# Altium footprint library Hengeveld.PCBLIB: 22 footprints (part 1 of 2)
Each footprint in its own frame and in the unit in brackets; x right, y up, seen from the top. Pads: shape width x height; smd on the part's side, far side on the other; paste and mask are expansions set on the pad; w line width, h text height; cw(c..) or ccw(c..) is an arc to the next point about the centre after c.
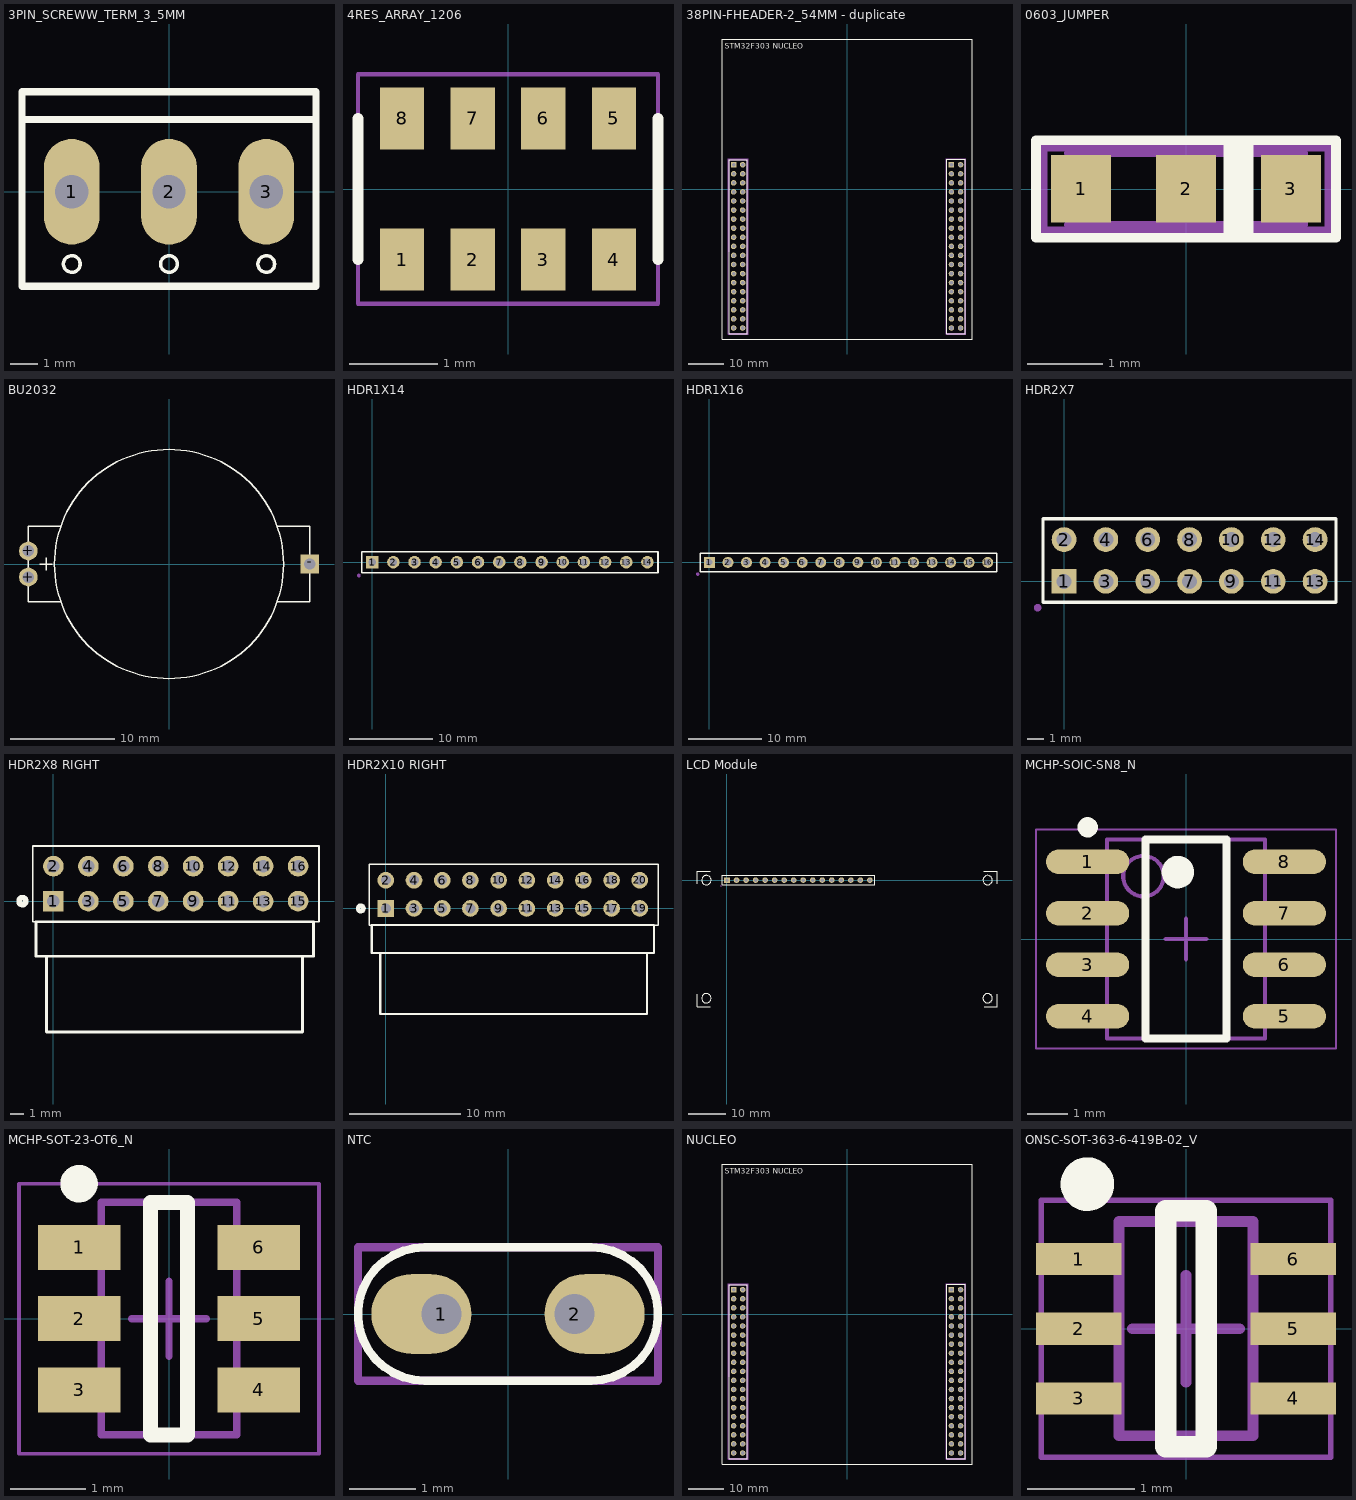
[diagram p0: the footprints below, top view; thin cyan lines are the x and y axes]

## 3PIN_SCREWW_TERM_3_5MM [mm]
height 5
pads (3):
  oval 2x3.8 hole 1.2: 1(-3.5,0) 2(0,0) 3(3.5,0)
Top Overlay:
  circle w0.127: c-3.5,-2.6 r0.3
  circle w0.127: c0,-2.6 r0.3
  circle w0.127: c3.5,-2.6 r0.3
  lines w0.254: -5.3,2.6 5.3,2.6 ; -5.3,-3.4 5.3,-3.4 5.3,3.6 0,3.6 -5.3,3.6 -5.3,-3.4

## 4RES_ARRAY_1206 [mm]
pads (8):
  rect 0.5x0.7 smd: 1(-1.2,-0.8) 2(-0.4,-0.8) 3(0.4,-0.8) 4(1.2,-0.8) 5(1.2,0.8) 6(0.4,0.8) 7(-0.4,0.8) 8(-1.2,0.8)
Top Overlay:
  lines w0.127: -1.7,-0.8 -1.7,0.8 ; 1.7,-0.8 1.7,0.8
Mechanical 15:
  lines w0.05: -1.7,-1.3 -1.7,1.3 1.7,1.3 1.7,-1.3 -1.7,-1.3
3D body "4RES_ARRAY.step": height 0.64, standoff -0.01, extent -1.6,-0.82 1.6,0.82

## 38PIN-FHEADER-2_54MM - duplicate [mm] "Low Cost Board Spacer, 2x19 Pins, Vertical, 2.54mm Pitch, Male"
height 28.245
pads (76):
  rect 1.55x1.55 hole 1.02: 1_1(-31.75,6.8) 1_2(29.25,6.8)
  round 1.55 hole 1.02: 2_1(-29.21,6.8) 2_2(31.79,6.8) 3_1(-31.75,4.26) 3_2(29.25,4.26) 4_1(-29.21,4.26) 4_2(31.79,4.26) 5_1(-31.75,1.72) 5_2(29.25,1.72) 6_1(-29.21,1.72) 6_2(31.79,1.72) 7_1(-31.75,-0.82) 7_2(29.25,-0.82) 8_1(-29.21,-0.82) 8_2(31.79,-0.82) 9_1(-31.75,-3.36) 9_2(29.25,-3.36) 10_1(-29.21,-3.36) 10_2(31.79,-3.36) 11_1(-31.75,-5.9) 11_2(29.25,-5.9) 12_1(-29.21,-5.9) 12_2(31.79,-5.9) 13_1(-31.75,-8.44) 13_2(29.25,-8.44) 14_1(-29.21,-8.44) 14_2(31.79,-8.44) 15_1(-31.75,-10.98) 15_2(29.25,-10.98) 16_1(-29.21,-10.98) 16_2(31.79,-10.98) 17_1(-31.75,-13.52) 17_2(29.25,-13.52) 18_1(-29.21,-13.52) 18_2(31.79,-13.52) 19_1(-31.75,-16.06) 19_2(29.25,-16.06) 20_1(-29.21,-16.06) 20_2(31.79,-16.06) 21_1(-31.75,-18.6) 21_2(29.25,-18.6) 22_1(-29.21,-18.6) 22_2(31.79,-18.6) 23_1(-31.75,-21.14) 23_2(29.25,-21.14) 24_1(-29.21,-21.14) 24_2(31.79,-21.14) 25_1(-31.75,-23.68) 25_2(29.25,-23.68) 26_1(-29.21,-23.68) 26_2(31.79,-23.68) 27_1(-31.75,-26.22) 27_2(29.25,-26.22) 28_1(-29.21,-26.22) 28_2(31.79,-26.22) 29_1(-31.75,-28.76) 29_2(29.25,-28.76) 30_1(-29.21,-28.76) 30_2(31.79,-28.76) 31_1(-31.75,-31.3) 31_2(29.25,-31.3) 32_1(-29.21,-31.3) 32_2(31.79,-31.3) 33_1(-31.75,-33.84) 33_2(29.25,-33.84) 34_1(-29.21,-33.84) 34_2(31.79,-33.84) 35_1(-31.75,-36.38) 35_2(29.25,-36.38) 36_1(-29.21,-36.38) 36_2(31.79,-36.38) 37_1(-31.75,-38.92) 37_2(29.25,-38.92) 38_1(-29.21,-38.92) 38_2(31.79,-38.92)
Top Overlay:
  lines w0.127: -35,-42 -35,42 35,42 35,-42 -35,-42
  lines w0.2: -33.02,-40.49 -33.02,8.26 -27.94,8.26 -27.94,-40.49 -33.02,-40.49 ; 27.98,-40.49 33.06,-40.49 33.06,8.26 27.98,8.26 27.98,-40.49
  text "STM32F303 NUCLEO" at -34.25,39.25 h1.52
tTest:
  lines w0.1: -33.02,-40.45 -27.94,-40.45 ; -33.02,-17.521 -33.02,8.26 -27.94,8.26 ; 27.98,-40.45 33.06,-40.45 ; 27.98,-17.521 27.98,8.26 33.06,8.26
  lines w0.127: -27.94,-40.49 -27.94,8.26 ; 33.06,-40.49 33.06,8.26
Mechanical 15:
  lines w0.05: -33.245,-40.7 -33.245,8.485 -27.715,8.485 -27.715,-40.7 -33.245,-40.7 ; 27.755,-40.7 33.285,-40.7 33.285,8.485 27.755,8.485 27.755,-40.7
3D body "Nucleo.step": height 20.1, standoff 1.35, extent -35,-41.25 35,41.25
3D body "38-PIN-Female-Header.step": height 8.7, standoff -3.55, extent -33,-40.6 -27.9,8.4
3D body "38-PIN-Female-Header.step": height 8.7, standoff -3.55, extent 28,-40.6 33.1,8.4

## 0603_JUMPER [mm] "3 Pad SMD Jumper, 0603"
height 1.3
pads (3):
  rect 0.8x0.9 smd: 1(-1.4,0) 2(0,0) 3(1.4,0)
Top Overlay:
  rectangle: 0.5,-0.65 0.9,0.65
  lines w0.127: -2,-0.65 -2,0.65 2,0.65 2,-0.65 -2,-0.65
tTest:
  lines w0.1: -1.575,-0.475 1.575,-0.475 1.575,0.475 -1.575,0.475 ; -0.175,-0.475 -0.175,0.475
Mechanical 15:
  lines w0.1: -1.9,-0.55 -1.9,0.55 1.9,0.55 1.9,-0.55 -1.9,-0.55
3D body "res0603r.STEP": height 0.45, standoff 0, extent -0.1,-0.4 1.5,0.4

## BU2032 [mm]
pads (3):
  round 1.8 hole 1.1: +(-13.5,-1.25) +(-13.5,1.25)
  rect 1.8x1.8 hole 1.1: -(13.5,0)
Top Overlay:
  circle w0.127: c0,0 r11
  lines w0.127: -12.4,0 -11.2,0 ; -11.8,-0.6 -11.8,0 -11.8,0.6 ; -10.4,-3.6 -13.5,-3.6 -13.5,3.6 -10.4,3.6 ; 10.4,-3.6 13.5,-3.6 13.5,3.6 10.4,3.6
3D body "BU2032.step": height 5.3, standoff -3.85, extent -14.3,-10 14.3,10

## HDR1X14 [mm] "Connector; Header; 14 Position"
pads (14):
  rect 1.5x1.5 hole 0.9: 1(0,0)
  round 1.5 hole 0.9: 2(2.54,0) 3(5.08,0) 4(7.62,0) 5(10.16,0) 6(12.7,0) 7(15.24,0) 8(17.78,0) 9(20.32,0) 10(22.86,0) 11(25.4,0) 12(27.94,0) 13(30.48,0) 14(33.02,0)
Top Overlay:
  lines w0.2: -1.27,-1.27 -1.27,1.27 0.635,1.27 34.29,1.27 34.29,-1.27 -1.27,-1.27
Assembly Top:
  circle w0.254: c-1.6,-1.6 r0.1
3D body "Pin Header 1x14 TH Pitch 2.54mm.stp": height 9.5, standoff -3.2, extent -1.18,-1.3 34.38,1.24
3D body: height 0.25, standoff 0, extent -0.4,5.1 -0.4,5.1

## HDR1X16 [mm] "Connector; Header; 16 Position"
pads (16):
  rect 1.5x1.5 hole 0.9: 1(0,0)
  round 1.5 hole 0.9: 2(2.54,0) 3(5.08,0) 4(7.62,0) 5(10.16,0) 6(12.7,0) 7(15.24,0) 8(17.78,0) 9(20.32,0) 10(22.86,0) 11(25.4,0) 12(27.94,0) 13(30.48,0) 14(33.02,0) 15(35.56,0) 16(38.1,0)
Top Overlay:
  lines w0.2: -1.27,-1.27 39.37,-1.27 39.37,1.27 0.635,1.27 -1.27,1.27 -1.27,-1.27
Assembly Top:
  circle w0.254: c-1.6,-1.6 r0.1
3D body "Pin Header 1x16 TH Pitch 2.54mm.stp": height 9.5, standoff -3.2, extent -1.32,-1.3 39.32,1.24

## HDR2X7 [mm] "Connector; Header; 7x2 Position"
pads (14):
  rect 1.5x1.5 hole 0.9: 1(0,0)
  round 1.5 hole 0.9: 2(0,2.54) 3(2.54,0) 4(2.54,2.54) 5(5.08,0) 6(5.08,2.54) 7(7.62,0) 8(7.62,2.54) 9(10.16,0) 10(10.16,2.54) 11(12.7,0) 12(12.7,2.54) 13(15.24,0) 14(15.24,2.54)
Top Overlay:
  lines w0.2: -1.27,-1.27 16.51,-1.27 16.51,3.81 -1.27,3.81 -1.27,-1.27
Assembly Top:
  circle w0.254: c-1.6,-1.6 r0.1
3D body "Pin Header 2x7 TH Pitch 2.54mm.stp": height 9.5, standoff -3.2, extent -1.19,-1.3 16.59,3.78

## HDR2X8 RIGHT [mm] "Connector; Header; 10x2 Position; Right Angle"
pads (16):
  rect 1.5x1.5 hole 0.9: 1(0,0)
  round 1.5 hole 0.9: 2(0,2.54) 3(2.54,0) 4(2.54,2.54) 5(5.08,0) 6(5.08,2.54) 7(7.62,0) 8(7.62,2.54) 9(10.16,0) 10(10.16,2.54) 11(12.7,0) 12(12.7,2.54) 13(15.24,0) 14(15.24,2.54) 15(17.78,0) 16(17.78,2.54)
Top Overlay:
  circle w0.4: c-2.25,0 r0.25
  lines w0.127: -1.5,-1.5 19.3,-1.5 19.3,4 -1.5,4 -1.5,-1.5
  lines w0.2: -1.27,-4 18.9,-4 18.9,-1.5 -1.27,-1.5 -1.27,-4 ; -0.5,-9.5 -0.5,-4 18.1,-4 18.1,-9.5 -0.5,-9.5
3D body "Pin Header 2x8 TH Angle Pitch 2.54mm.stp": height 5.63, standoff -3.2, extent -1.27,-10.883 19.05,2.855

## HDR2X10 RIGHT [mm] "Connector; Header; 10x2 Position; Right Angle"
pads (20):
  rect 1.5x1.5 hole 0.9: 1(0,0)
  round 1.5 hole 0.9: 2(0,2.54) 3(2.54,0) 4(2.54,2.54) 5(5.08,0) 6(5.08,2.54) 7(7.62,0) 8(7.62,2.54) 9(10.16,0) 10(10.16,2.54) 11(12.7,0) 12(12.7,2.54) 13(15.24,0) 14(15.24,2.54) 15(17.78,0) 16(17.78,2.54) 17(20.32,0) 18(20.32,2.54) 19(22.86,0) 20(22.86,2.54)
Top Overlay:
  circle w0.4: c-2.25,0 r0.25
  lines w0.127: -1.5,-1.5 -1.5,4 24.5,4 24.5,-1.5 -1.5,-1.5
  lines w0.2: -1.27,-4 -1.27,-1.5 24.13,-1.5 24.13,-4 -1.27,-4 ; -0.5,-9.5 23.5,-9.5 23.5,-4 -0.5,-4 -0.5,-9.5
3D body "zl202-20_p2-54_l25-4_w12-4_h5-1.stp": height 5.08, standoff -3, extent -1.27,-9.9 24.13,2.86

## LCD Module [mm] "16 Pin LCD Module w/ header pins, Female Header"
height 20
pads (16):
  rect 1.5x1.5 hole 0.9: 1(0,0)
  round 1.5 hole 0.9: 2(2.54,0) 3(5.08,0) 4(7.62,0) 5(10.16,0) 6(12.7,0) 7(15.24,0) 8(17.78,0) 9(20.32,0) 10(22.86,0) 11(25.4,0) 12(27.94,0) 13(30.48,0) 14(33.02,0) 15(35.56,0) 16(38.1,0)
Top Overlay:
  circle w0.254: c-5.5,-31.5 r1.25
  circle w0.254: c69.5,-31.5 r1.25
  circle w0.254: c69.5,0 r1.25
  circle w0.254: c-5.5,0 r1.25
  lines w0.127: -8,0 -8,2.4
  lines w0.2: -1.27,-1.27 -1.27,1.27 0.635,1.27 39.37,1.27 39.37,-1.27 -1.27,-1.27
  lines w0.254: -8,-30.4 -8,-33.8 -4.5,-33.8 ; -8,-1 -8,2.4 -4.5,2.4 ; 68.5,2.4 72,2.4 72,-1 ; 68.6,-33.8 72,-33.8 72,-30.4
Assembly Top:
  circle w0.254: c-1.6,-1.6 r0.1
3D body "LCD_NHD-0216K1Z-NSB-FBW-L v19.step": height 21.7, standoff -2.68, extent -8,-33.4 72,2.7

## MCHP-SOIC-SN8_N [mm] "SOIC, 8-Leads, Body 4.9x3.9mm, Pitch 1.27mm, IPC Medium Density"
height 1.75
pads (8):
  oval 2.05x0.6 smd: 1(-2.425,1.905) 2(-2.425,0.635) 3(-2.425,-0.635) 4(-2.425,-1.905) 5(2.425,-1.905) 6(2.425,-0.635) 7(2.425,0.635) 8(2.425,1.905)
Top Overlay:
  circle w0.25: c-2.425,2.755 r0.125
  circle w0.4: c-0.2,1.65 r0.2
  lines w0.2: -1,-2.45 -1,2.45 1,2.45 1,-2.45 -1,-2.45
tTest:
  circle w0.1: c-1.05,1.55 r0.5
  lines w0.1: -1.95,-2.45 -1.95,2.45 1.95,2.45 1.95,-2.45 -1.95,-2.45
Mechanical 15:
  lines w0.05: -3.7,-2.7 -3.7,2.7 3.7,2.7 3.7,-2.7 -3.7,-2.7
  lines w0.1: -0.5,0 0.5,0 ; 0,-0.5 0,0.5
3D body "S08.stp": height 1.55, standoff 0, extent -3,-2.45 3,2.45

## MCHP-SOT-23-OT6_N [mm] "SOT23, 6-Leads, Body 2.9x1.55mm, Pitch 0.95mm, IPC Medium Density"
height 1.45
pads (6):
  rect 1.1x0.6 smd: 1(-1.2,0.95) 2(-1.2,0) 3(-1.2,-0.95) 4(1.2,-0.95) 5(1.2,0) 6(1.2,0.95)
Top Overlay:
  circle w0.25: c-1.2,1.8 r0.125
  lines w0.2: -0.25,-1.55 -0.25,1.55 0.25,1.55 0.25,-1.55 -0.25,-1.55
tTest:
  lines w0.1: -0.9,-1.55 0.9,-1.55 0.9,1.55 -0.9,1.55 -0.9,-1.55
Mechanical 15:
  lines w0.05: -2,-1.8 2,-1.8 2,1.8 -2,1.8 -2,-1.8
  lines w0.1: -0.5,0 0.5,0 ; 0,-0.5 0,0.5
3D body "sot-23-6.stp": height 1.15, standoff 0.04, extent -1.422,-1.461 1.422,1.46

## NTC [mm] "Through-hole NTC"
height 6
pads (2):
  oval 1.5x1.2 hole 0.6 copper offset -0.3,0: 1(-1,0)
  rrect100% 1.5x1.2 hole 0.6 copper offset 0.3,0: 2(1,0)
Top Overlay:
  lines w0.127: -1.25,-1 cw(c-1.25,0) -1.25,1 1.25,1 cw(c1.25,0) 1.25,-1 -1.25,-1
Mechanical 15:
  lines w0.127: -2.25,-1 2.25,-1 2.25,1 -2.25,1 -2.25,-1
3D body "NTC.step": height 6, standoff 0, extent -1.5,-0.5 1.498,0.5

## NUCLEO [mm] "Low Cost Board Spacer, 2x19 Pins, Vertical, 2.54mm Pitch, Male"
height 28.245
pads (76):
  rect 1.55x1.55 hole 1.02: 1_1(-31.75,6.8) 1_2(29.25,6.8)
  round 1.55 hole 1.02: 2_1(-29.21,6.8) 2_2(31.79,6.8) 3_1(-31.75,4.26) 3_2(29.25,4.26) 4_1(-29.21,4.26) 4_2(31.79,4.26) 5_1(-31.75,1.72) 5_2(29.25,1.72) 6_1(-29.21,1.72) 6_2(31.79,1.72) 7_1(-31.75,-0.82) 7_2(29.25,-0.82) 8_1(-29.21,-0.82) 8_2(31.79,-0.82) 9_1(-31.75,-3.36) 9_2(29.25,-3.36) 10_1(-29.21,-3.36) 10_2(31.79,-3.36) 11_1(-31.75,-5.9) 11_2(29.25,-5.9) 12_1(-29.21,-5.9) 12_2(31.79,-5.9) 13_1(-31.75,-8.44) 13_2(29.25,-8.44) 14_1(-29.21,-8.44) 14_2(31.79,-8.44) 15_1(-31.75,-10.98) 15_2(29.25,-10.98) 16_1(-29.21,-10.98) 16_2(31.79,-10.98) 17_1(-31.75,-13.52) 17_2(29.25,-13.52) 18_1(-29.21,-13.52) 18_2(31.79,-13.52) 19_1(-31.75,-16.06) 19_2(29.25,-16.06) 20_1(-29.21,-16.06) 20_2(31.79,-16.06) 21_1(-31.75,-18.6) 21_2(29.25,-18.6) 22_1(-29.21,-18.6) 22_2(31.79,-18.6) 23_1(-31.75,-21.14) 23_2(29.25,-21.14) 24_1(-29.21,-21.14) 24_2(31.79,-21.14) 25_1(-31.75,-23.68) 25_2(29.25,-23.68) 26_1(-29.21,-23.68) 26_2(31.79,-23.68) 27_1(-31.75,-26.22) 27_2(29.25,-26.22) 28_1(-29.21,-26.22) 28_2(31.79,-26.22) 29_1(-31.75,-28.76) 29_2(29.25,-28.76) 30_1(-29.21,-28.76) 30_2(31.79,-28.76) 31_1(-31.75,-31.3) 31_2(29.25,-31.3) 32_1(-29.21,-31.3) 32_2(31.79,-31.3) 33_1(-31.75,-33.84) 33_2(29.25,-33.84) 34_1(-29.21,-33.84) 34_2(31.79,-33.84) 35_1(-31.75,-36.38) 35_2(29.25,-36.38) 36_1(-29.21,-36.38) 36_2(31.79,-36.38) 37_1(-31.75,-38.92) 37_2(29.25,-38.92) 38_1(-29.21,-38.92) 38_2(31.79,-38.92)
Top Overlay:
  lines w0.127: -35,-42 -35,42 35,42 35,-42 -35,-42
  lines w0.2: -33.02,-40.49 -33.02,8.26 -27.94,8.26 -27.94,-40.49 -33.02,-40.49 ; 27.98,-40.49 33.06,-40.49 33.06,8.26 27.98,8.26 27.98,-40.49
  text "STM32F303 NUCLEO" at -34.25,39.25 h1.52
tTest:
  lines w0.1: -33.02,-40.45 -27.94,-40.45 ; -33.02,-17.521 -33.02,8.26 -27.94,8.26 ; 27.98,-40.45 33.06,-40.45 ; 27.98,-17.521 27.98,8.26 33.06,8.26
  lines w0.127: -27.94,-40.49 -27.94,8.26 ; 33.06,-40.49 33.06,8.26
Mechanical 15:
  lines w0.05: -33.245,-40.7 -33.245,8.485 -27.715,8.485 -27.715,-40.7 -33.245,-40.7 ; 27.755,-40.7 33.285,-40.7 33.285,8.485 27.755,8.485 27.755,-40.7
3D body "Nucleo.step": height 20.1, standoff 1.35, extent -35,-43.79 35,38.71
3D body "38-PIN-Female-Header.step": height 8.7, standoff -3.55, extent -33,-40.6 -27.9,8.4
3D body "38-PIN-Female-Header.step": height 8.7, standoff -3.55, extent 28,-40.6 33.1,8.4

## ONSC-SOT-363-6-419B-02_V [mm] "SOT23, 6-Leads, Body 2x1.25mm, Pitch 0.65mm"
height 1.1
pads (6):
  rect 0.8x0.3 smd: 1(-1,0.65) 2(-1,0) 3(-1,-0.65) 4(1,-0.65) 5(1,0) 6(1,0.65)
Top Overlay:
  circle w0.25: c-0.92,1.35 r0.125
  lines w0.2: -0.19,-1.1 -0.19,1.1 0.19,1.1 0.19,-1.1 -0.19,-1.1
tTest:
  lines w0.1: -0.625,-1 0.625,-1 0.625,1 -0.625,1 -0.625,-1
Mechanical 15:
  lines w0.05: -1.35,-1.2 1.35,-1.2 1.35,1.2 -1.35,1.2 -1.35,-1.2
  lines w0.1: -0.5,0 0.5,0 ; 0,-0.5 0,0.5
3D body "SOT363-2.STEP": height 1.1, standoff 0, extent -1.2,-1.1 1.2,1.1